# Altium footprint library KBU1010.PcbLib: 1 footprints
Each footprint in its own frame and in the unit in brackets; x right, y up, seen from the top. Pads: shape width x height; smd on the part's side, far side on the other; paste and mask are expansions set on the pad; w line width, h text height; cw(c..) or ccw(c..) is an arc to the next point about the centre after c.
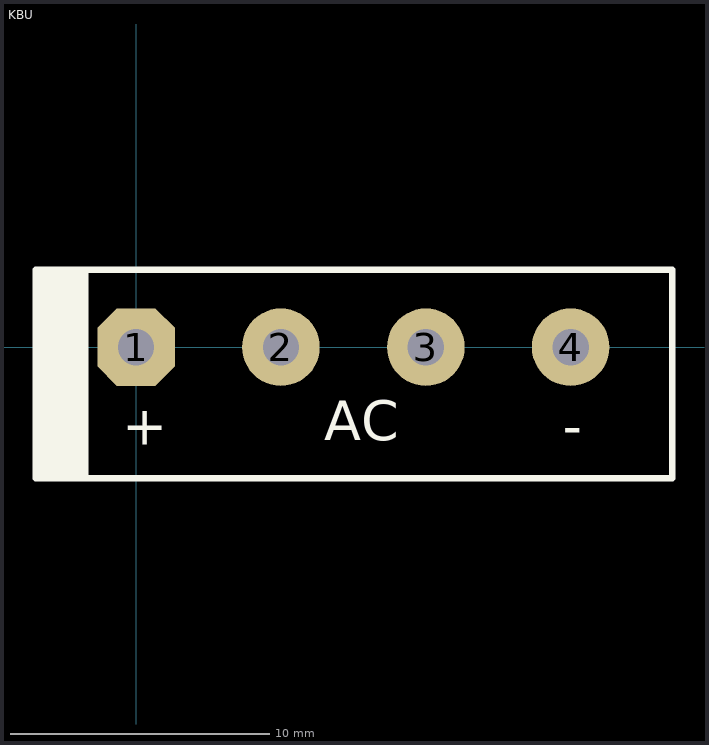
[diagram p0: the footprint, top view; thin cyan lines are the x and y axes]

## KBU [mm]
pads (4):
  oct 3x3 hole 1.4: 1(0,0)
  round 3 hole 1.4: 2(5.6,0) 3(11.2,0) 4(16.8,0)
Top Overlay:
  rectangle: -3.825,-5.075 -2.05,3
  lines w0.254: -3.875,3 -3.875,-5.075 20.725,-5.075 20.725,3 -3.825,3 ; -1.975,-5.05 -1.975,3 -1.9,3
  text "-" at 16.5,-3.8 h1.52
  text "AC" at 7.275,-3.6 h1.52
  text "+" at -0.525,-3.775 h1.52
3D body "KBU1010.STEP": height 31.74, standoff -15.96, extent -3.432,-4.65 20.282,2.451